# EAGLE library part MCV11 (library con-phoenix-381)
Mini-Combicon 3.81mm vertikal 11polig MCV 1,5/11-G-3,81 Artikel-Nr. 1803510
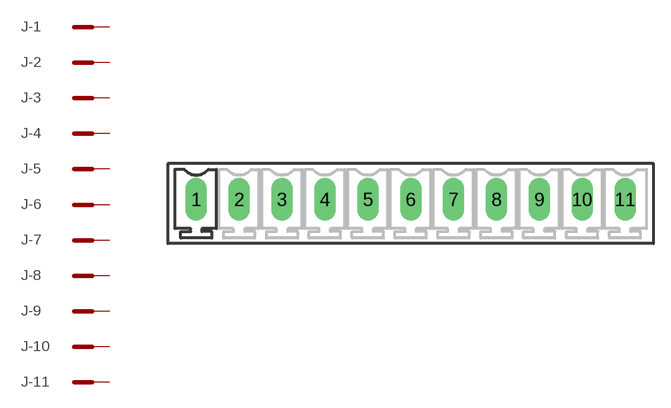
[diagram p5: symbol with the pads of MCV11; footprint MCV11]

Designator prefix J; gates -1=MCST -2=MCST -3=MCST -4=MCST -5=MCST -6=MCST -7=MCST -8=MCST -9=MCST -10=MCST -11=MCST

## MCV11  [MCV11]
1  -1:SK  pas
2  -2:SK  pas
3  -3:SK  pas
4  -4:SK  pas
5  -5:SK  pas
6  -6:SK  pas
7  -7:SK  pas
8  -8:SK  pas
9  -9:SK  pas
10  -10:SK  pas
11  -11:SK  pas

## Footprint MCV11 (pad centres in mm)
Mini-Combicon 3.81mm vertikal 11-polig MCV 1,5/11-G-3,81 Artikel-Nr. 1803510
drill 1.27 pad 1.905 long: 1 -19.05,0; 2 -15.24,0; 3 -11.43,0; 4 -7.62,0; 5 -3.81,0; 6 0,0; 7 3.81,0; 8 7.62,0; 9 11.43,0; 10 15.24,0; 11 19.05,0